# Altium schematic symbol library mcu_8bit_avr_mega8-48-88-168-328.SchLib: 61 symbols (part 2 of 2)
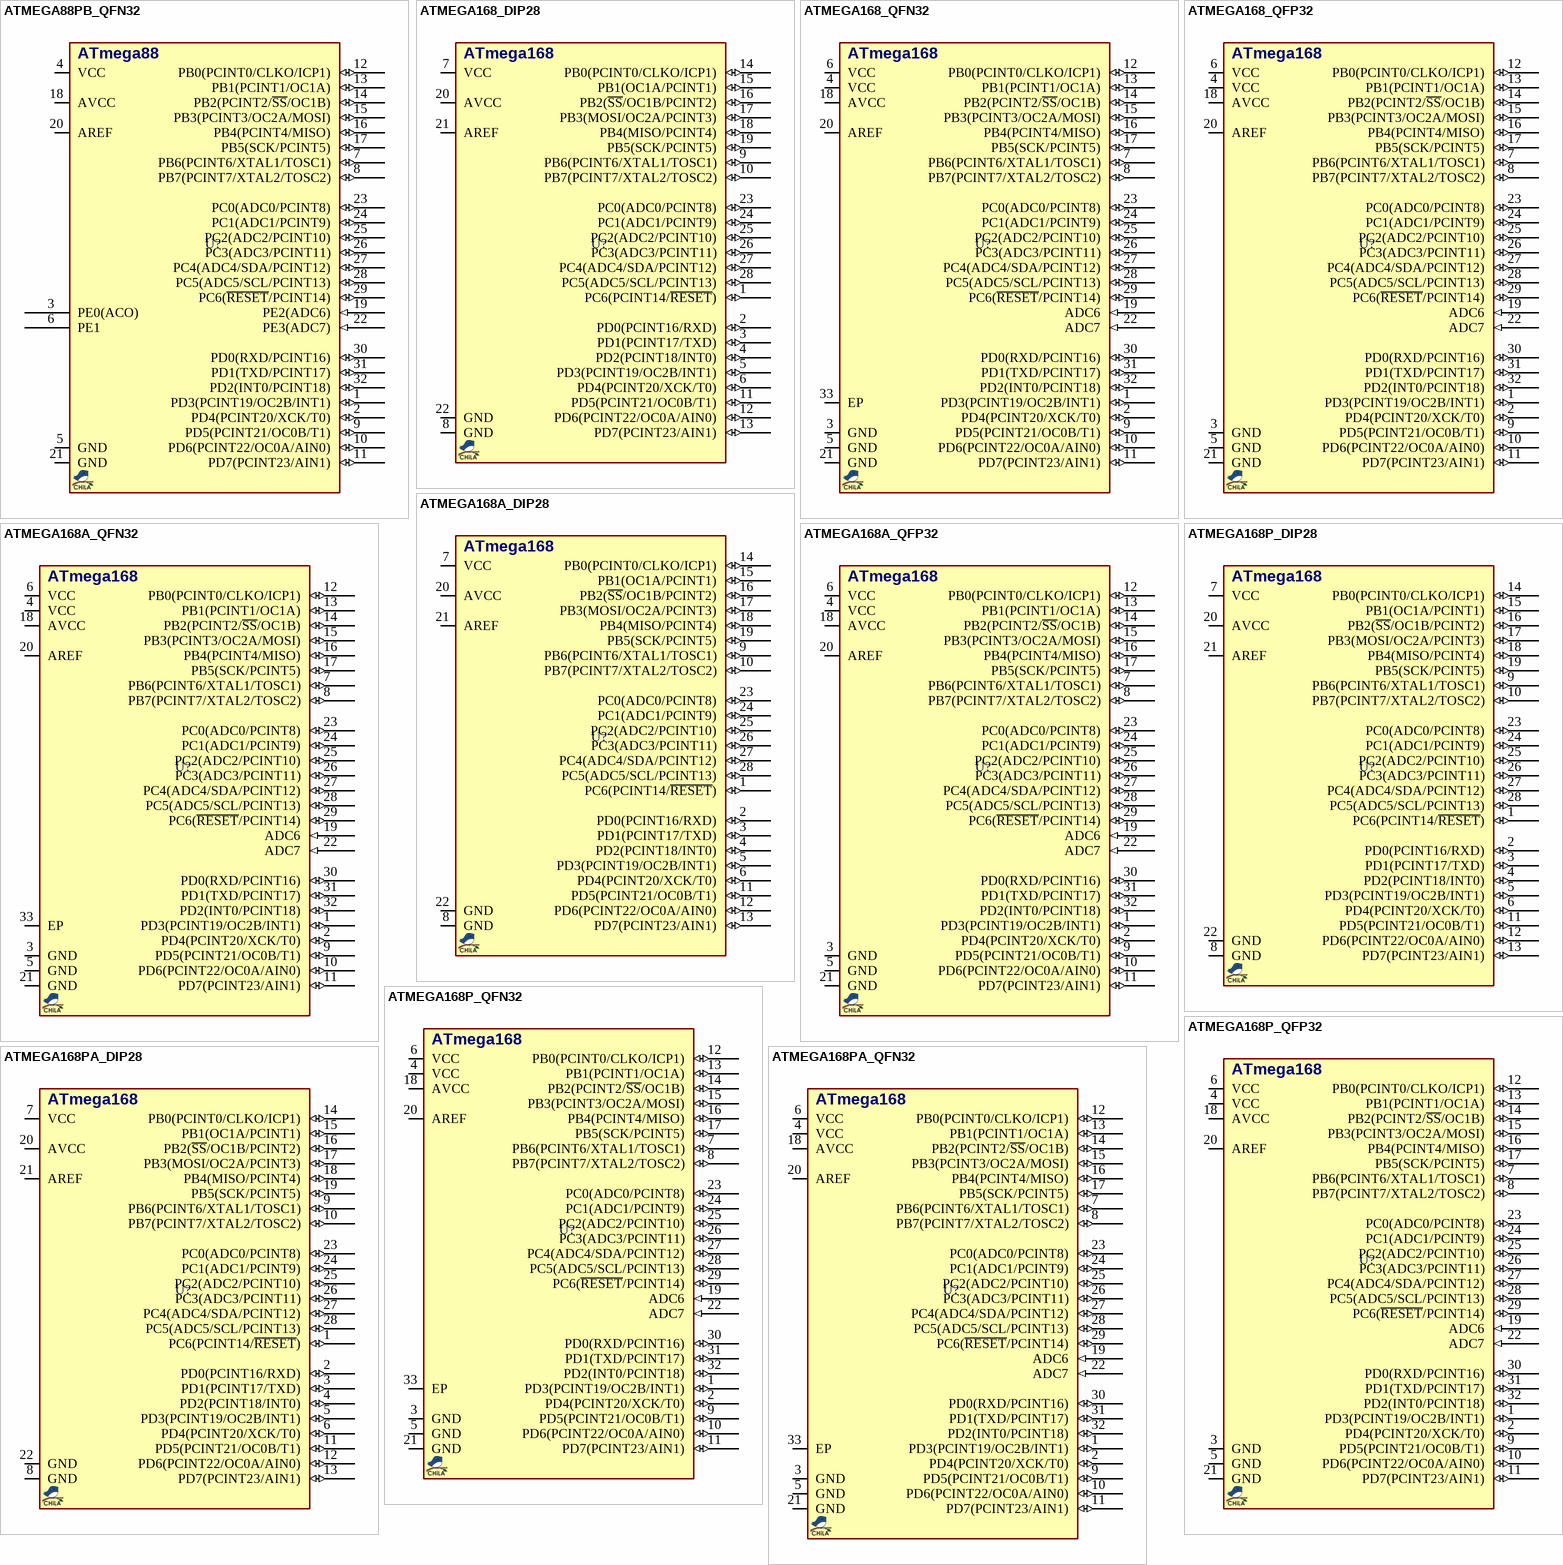
[diagram p6: symbols ATMEGA88PB_QFN32 to ATMEGA168PA_QFN32]

## ATMEGA168P_QFN32
designator U?, comment ATMEGA168  (value not drawn)
MCU, AVR, 8-Bit, 16KB, 1KB RAM, 20MHz; PART#ALT: ATmega8-48-88-168-328; MANF_P#: ATMEGA168P-20MU; DESC: 512B EEPROM; MANF: ATMEL/MICROCHIP; PARAM2: 2.7~5.5V; PARAM: 16KB, 1KB RAM, 20MHz, -40~85°C; PRICE: 2$; VALUE: ATMEGA168
footprint QFG80_32 (TQFP32, A32 (Cypress), GP32 (Zarlink), MS-026ABA(JEDEC), 7X7mm, 0.8mm)
pins: 1 PD3(PCINT19/OC2B/INT1) (io), 2 PD4(PCINT20/XCK/T0) (io), 3 GND (power), 4 VCC (power), 5 GND (power), 6 VCC (power), 7 PB6(PCINT6/XTAL1/TOSC1) (io), 8 PB7(PCINT7/XTAL2/TOSC2) (io), 9 PD5(PCINT21/OC0B/T1) (io), 10 PD6(PCINT22/OC0A/AIN0) (io), 11 PD7(PCINT23/AIN1) (io), 12 PB0(PCINT0/CLKO/ICP1) (io), 13 PB1(PCINT1/OC1A) (io), 14 PB2(PCINT2/~{SS}/OC1B) (io), 15 PB3(PCINT3/OC2A/MOSI) (io), 16 PB4(PCINT4/MISO) (io), 17 PB5(SCK/PCINT5) (io), 18 AVCC (power), 19 ADC6 (in), 20 AREF, 21 GND (power), 22 ADC7 (in), 23 PC0(ADC0/PCINT8) (io), 24 PC1(ADC1/PCINT9) (io), 25 PC2(ADC2/PCINT10) (io), 26 PC3(ADC3/PCINT11) (io), 27 PC4(ADC4/SDA/PCINT12) (io), 28 PC5(ADC5/SCL/PCINT13) (io), 29 PC6(~{RESET}/PCINT14) (io), 30 PD0(RXD/PCINT16) (io), 31 PD1(TXD/PCINT17) (io), 32 PD2(INT0/PCINT18) (io), 33 EP (power)
text: ATmega168

## ATMEGA168P_QFP32
designator U?, comment ATMEGA168  (value not drawn)
MCU, AVR, 8-Bit, 16KB, 1KB RAM, 20MHz; PART#ALT: ATmega8-48-88-168-328; MANF_P#: ATMEGA168P-20AU; DESC: 512B EEPROM; MANF: ATMEL/MICROCHIP; PARAM2: 2.7~5.5V; PARAM: 16KB, 1KB RAM, 20MHz, -40~85°C; PRICE: 2$; VALUE: ATMEGA168
footprint QFG80_32 (TQFP32, A32 (Cypress), GP32 (Zarlink), MS-026ABA(JEDEC), 7X7mm, 0.8mm)
pins: 1 PD3(PCINT19/OC2B/INT1) (io), 2 PD4(PCINT20/XCK/T0) (io), 3 GND (power), 4 VCC (power), 5 GND (power), 6 VCC (power), 7 PB6(PCINT6/XTAL1/TOSC1) (io), 8 PB7(PCINT7/XTAL2/TOSC2) (io), 9 PD5(PCINT21/OC0B/T1) (io), 10 PD6(PCINT22/OC0A/AIN0) (io), 11 PD7(PCINT23/AIN1) (io), 12 PB0(PCINT0/CLKO/ICP1) (io), 13 PB1(PCINT1/OC1A) (io), 14 PB2(PCINT2/~{SS}/OC1B) (io), 15 PB3(PCINT3/OC2A/MOSI) (io), 16 PB4(PCINT4/MISO) (io), 17 PB5(SCK/PCINT5) (io), 18 AVCC (power), 19 ADC6 (in), 20 AREF, 21 GND (power), 22 ADC7 (in), 23 PC0(ADC0/PCINT8) (io), 24 PC1(ADC1/PCINT9) (io), 25 PC2(ADC2/PCINT10) (io), 26 PC3(ADC3/PCINT11) (io), 27 PC4(ADC4/SDA/PCINT12) (io), 28 PC5(ADC5/SCL/PCINT13) (io), 29 PC6(~{RESET}/PCINT14) (io), 30 PD0(RXD/PCINT16) (io), 31 PD1(TXD/PCINT17) (io), 32 PD2(INT0/PCINT18) (io)
text: ATmega168

## ATMEGA168PA_DIP28
designator U?, comment ATMEGA168  (value not drawn)
MCU, AVR, 8-Bit, 16KB, 1KB RAM, 20MHz; PART#ALT: ATmega8-48-88-168-328; MANF_P#: ATMEGA168A-PU; DESC: 512B EEPROM; MANF: ATMEL/MICROCHIP; PARAM2: 1.8~5.5V; PARAM: 16KB, 1KB RAM, 20MHz, -40~85°C; PRICE: 1.8$; VALUE: ATMEGA168
footprint DIP_28 (DIP, pitch 2.54mm, 300mil Width)
pins: 1 PC6(PCINT14/~{RESET}) (io), 2 PD0(PCINT16/RXD) (io), 3 PD1(PCINT17/TXD) (io), 4 PD2(PCINT18/INT0) (io), 5 PD3(PCINT19/OC2B/INT1) (io), 6 PD4(PCINT20/XCK/T0) (io), 7 VCC (power), 8 GND (power), 9 PB6(PCINT6/XTAL1/TOSC1) (io), 10 PB7(PCINT7/XTAL2/TOSC2) (io), 11 PD5(PCINT21/OC0B/T1) (io), 12 PD6(PCINT22/OC0A/AIN0) (io), 13 PD7(PCINT23/AIN1) (io), 14 PB0(PCINT0/CLKO/ICP1) (io), 15 PB1(OC1A/PCINT1) (io), 16 PB2(~{SS}/OC1B/PCINT2) (io), 17 PB3(MOSI/OC2A/PCINT3) (io), 18 PB4(MISO/PCINT4) (io), 19 PB5(SCK/PCINT5) (io), 20 AVCC (power), 21 AREF, 22 GND (power), 23 PC0(ADC0/PCINT8) (io), 24 PC1(ADC1/PCINT9) (io), 25 PC2(ADC2/PCINT10) (io), 26 PC3(ADC3/PCINT11) (io), 27 PC4(ADC4/SDA/PCINT12) (io), 28 PC5(ADC5/SCL/PCINT13) (io)
text: ATmega168

## ATMEGA168PA_QFN32
designator U?, comment ATMEGA168  (value not drawn)
MCU, AVR, 8-Bit, 16KB, 1KB RAM, 20MHz; PART#ALT: ATmega8-48-88-168-328; MANF_P#: ATMEGA168PA-MU; DESC: 512B EEPROM; MANF: ATMEL/MICROCHIP; PARAM2: 1.8~5.5V; PARAM: 16KB, 1KB RAM, 20MHz, -40~85°C; PRICE: 1.1$; VALUE: ATMEGA168
footprint QFG80_32 (TQFP32, A32 (Cypress), GP32 (Zarlink), MS-026ABA(JEDEC), 7X7mm, 0.8mm)
pins: 1 PD3(PCINT19/OC2B/INT1) (io), 2 PD4(PCINT20/XCK/T0) (io), 3 GND (power), 4 VCC (power), 5 GND (power), 6 VCC (power), 7 PB6(PCINT6/XTAL1/TOSC1) (io), 8 PB7(PCINT7/XTAL2/TOSC2) (io), 9 PD5(PCINT21/OC0B/T1) (io), 10 PD6(PCINT22/OC0A/AIN0) (io), 11 PD7(PCINT23/AIN1) (io), 12 PB0(PCINT0/CLKO/ICP1) (io), 13 PB1(PCINT1/OC1A) (io), 14 PB2(PCINT2/~{SS}/OC1B) (io), 15 PB3(PCINT3/OC2A/MOSI) (io), 16 PB4(PCINT4/MISO) (io), 17 PB5(SCK/PCINT5) (io), 18 AVCC (power), 19 ADC6 (in), 20 AREF, 21 GND (power), 22 ADC7 (in), 23 PC0(ADC0/PCINT8) (io), 24 PC1(ADC1/PCINT9) (io), 25 PC2(ADC2/PCINT10) (io), 26 PC3(ADC3/PCINT11) (io), 27 PC4(ADC4/SDA/PCINT12) (io), 28 PC5(ADC5/SCL/PCINT13) (io), 29 PC6(~{RESET}/PCINT14) (io), 30 PD0(RXD/PCINT16) (io), 31 PD1(TXD/PCINT17) (io), 32 PD2(INT0/PCINT18) (io), 33 EP (power)
text: ATmega168

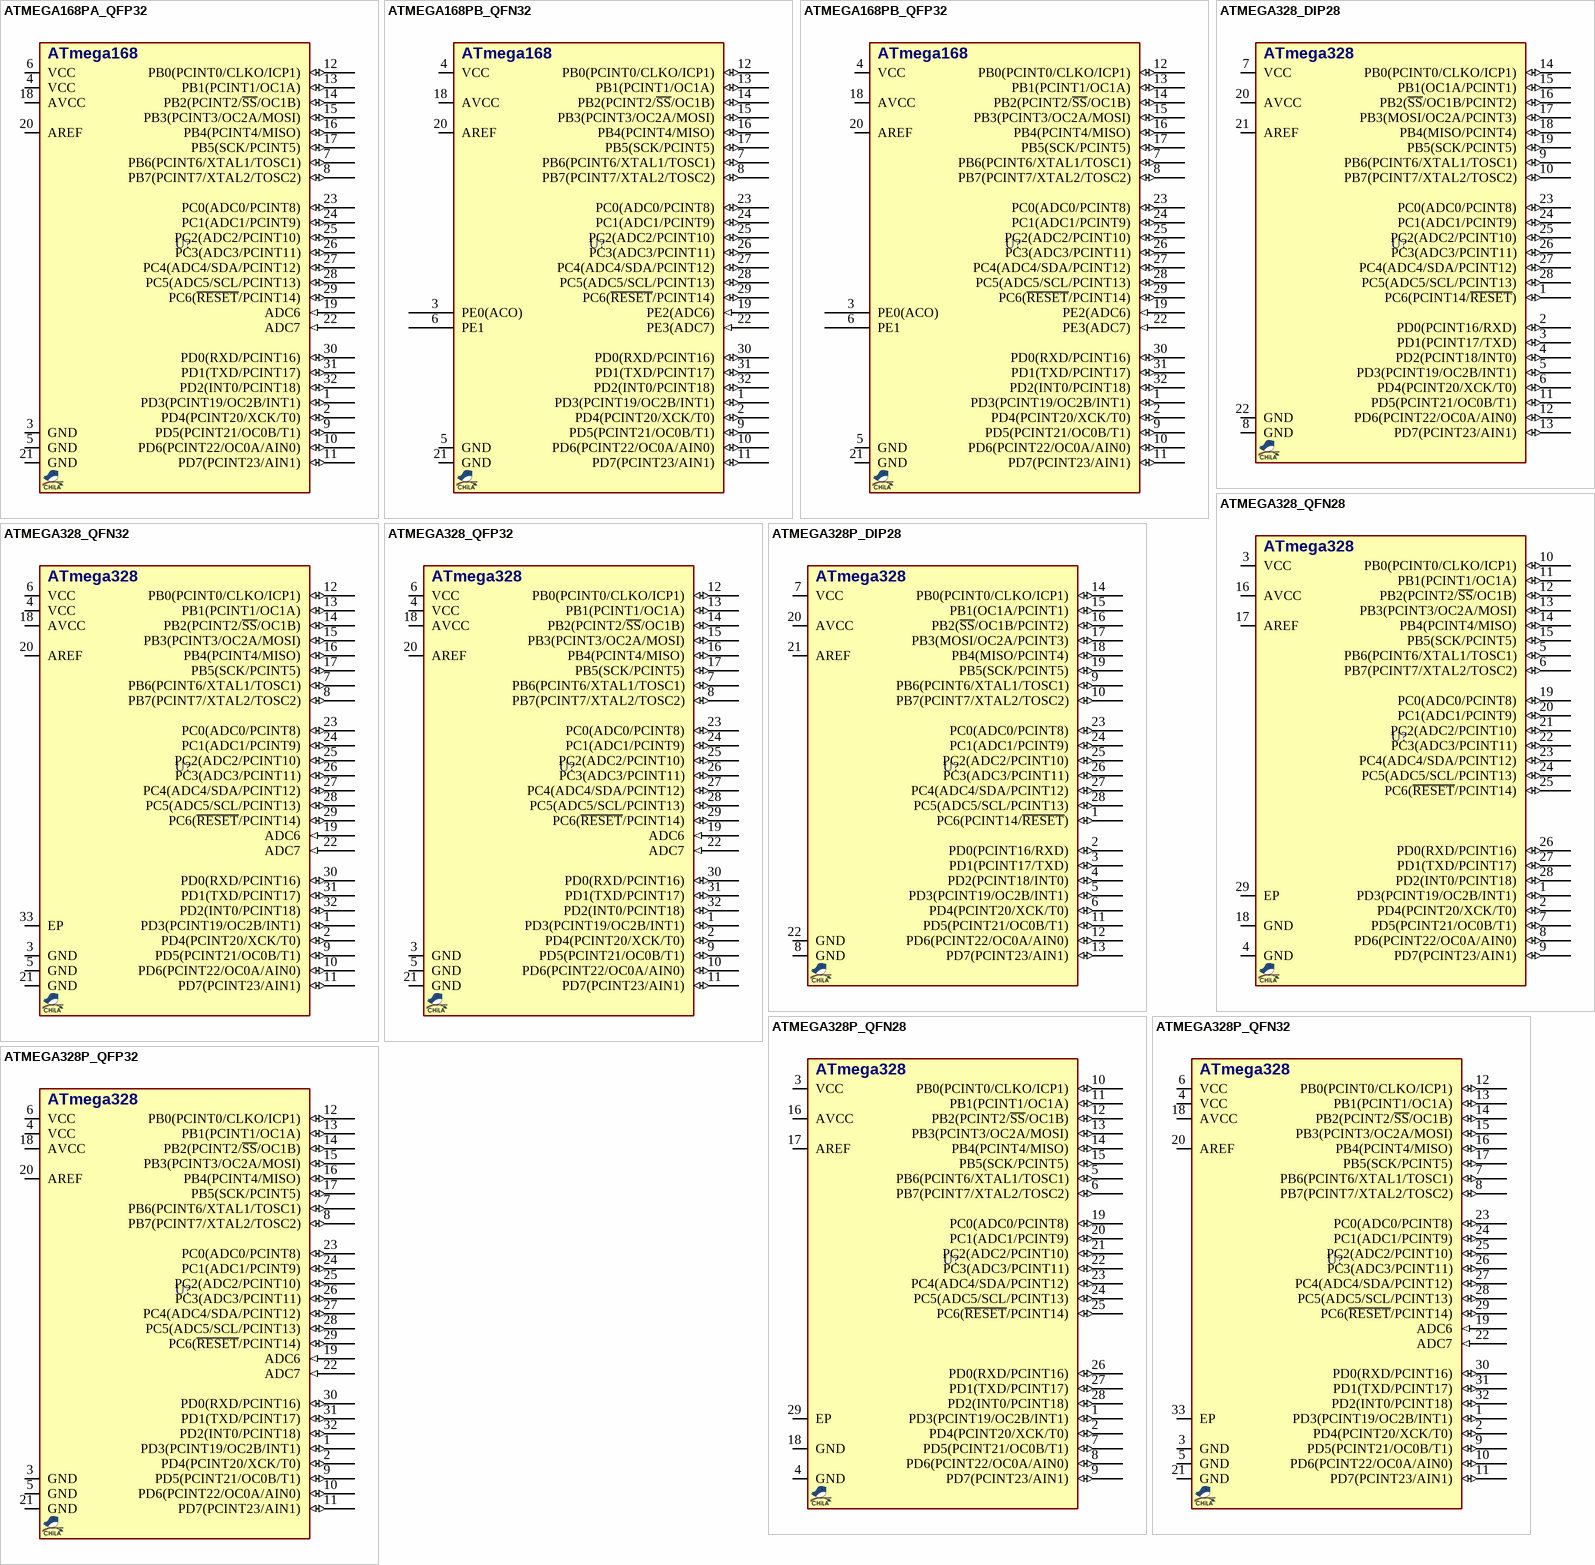
[diagram p4: symbols ATMEGA168PA_QFP32 to ATMEGA328P_QFP32]

## ATMEGA168PA_QFP32
designator U?, comment ATMEGA168  (value not drawn)
MCU, AVR, 8-Bit, 16KB, 1KB RAM, 20MHz; PART#ALT: ATmega8-48-88-168-328; MANF_P#: ATMEGA168PA-AU; DESC: 512B EEPROM; MANF: ATMEL/MICROCHIP; PARAM2: 1.8~5.5V; PARAM: 16KB, 1KB RAM, 20MHz, -40~85°C; PRICE: 2$; VALUE: ATMEGA168
footprint QFG80_32 (TQFP32, A32 (Cypress), GP32 (Zarlink), MS-026ABA(JEDEC), 7X7mm, 0.8mm)
pins: 1 PD3(PCINT19/OC2B/INT1) (io), 2 PD4(PCINT20/XCK/T0) (io), 3 GND (power), 4 VCC (power), 5 GND (power), 6 VCC (power), 7 PB6(PCINT6/XTAL1/TOSC1) (io), 8 PB7(PCINT7/XTAL2/TOSC2) (io), 9 PD5(PCINT21/OC0B/T1) (io), 10 PD6(PCINT22/OC0A/AIN0) (io), 11 PD7(PCINT23/AIN1) (io), 12 PB0(PCINT0/CLKO/ICP1) (io), 13 PB1(PCINT1/OC1A) (io), 14 PB2(PCINT2/~{SS}/OC1B) (io), 15 PB3(PCINT3/OC2A/MOSI) (io), 16 PB4(PCINT4/MISO) (io), 17 PB5(SCK/PCINT5) (io), 18 AVCC (power), 19 ADC6 (in), 20 AREF, 21 GND (power), 22 ADC7 (in), 23 PC0(ADC0/PCINT8) (io), 24 PC1(ADC1/PCINT9) (io), 25 PC2(ADC2/PCINT10) (io), 26 PC3(ADC3/PCINT11) (io), 27 PC4(ADC4/SDA/PCINT12) (io), 28 PC5(ADC5/SCL/PCINT13) (io), 29 PC6(~{RESET}/PCINT14) (io), 30 PD0(RXD/PCINT16) (io), 31 PD1(TXD/PCINT17) (io), 32 PD2(INT0/PCINT18) (io)
text: ATmega168

## ATMEGA168PB_QFN32
designator U?, comment ATMEGA168  (value not drawn)
MCU, AVR, 8-Bit, 16KB, 1KB RAM, 20MHz; PART#ALT: ATmega8-48-88-168-328; MANF_P#: ATMEGA168PB-MU; DESC: 512B EEPROM; MANF: ATMEL/MICROCHIP; PARAM2: 1.8~5.5V; PARAM: 16KB, 1KB RAM, 20MHz, -40~85°C; PRICE: 1.1$; VALUE: ATMEGA168
footprint QFG80_32 (TQFP32, A32 (Cypress), GP32 (Zarlink), MS-026ABA(JEDEC), 7X7mm, 0.8mm)
pins: 1 PD3(PCINT19/OC2B/INT1) (io), 2 PD4(PCINT20/XCK/T0) (io), 3 PE0(ACO) (power), 4 VCC (power), 5 GND (power), 6 PE1 (power), 7 PB6(PCINT6/XTAL1/TOSC1) (io), 8 PB7(PCINT7/XTAL2/TOSC2) (io), 9 PD5(PCINT21/OC0B/T1) (io), 10 PD6(PCINT22/OC0A/AIN0) (io), 11 PD7(PCINT23/AIN1) (io), 12 PB0(PCINT0/CLKO/ICP1) (io), 13 PB1(PCINT1/OC1A) (io), 14 PB2(PCINT2/~{SS}/OC1B) (io), 15 PB3(PCINT3/OC2A/MOSI) (io), 16 PB4(PCINT4/MISO) (io), 17 PB5(SCK/PCINT5) (io), 18 AVCC (power), 19 PE2(ADC6) (in), 20 AREF, 21 GND (power), 22 PE3(ADC7) (in), 23 PC0(ADC0/PCINT8) (io), 24 PC1(ADC1/PCINT9) (io), 25 PC2(ADC2/PCINT10) (io), 26 PC3(ADC3/PCINT11) (io), 27 PC4(ADC4/SDA/PCINT12) (io), 28 PC5(ADC5/SCL/PCINT13) (io), 29 PC6(~{RESET}/PCINT14) (io), 30 PD0(RXD/PCINT16) (io), 31 PD1(TXD/PCINT17) (io), 32 PD2(INT0/PCINT18) (io)
text: ATmega168

## ATMEGA168PB_QFP32
designator U?, comment ATMEGA168  (value not drawn)
MCU, AVR, 8-Bit, 16KB, 1KB RAM, 20MHz; PART#ALT: ATmega8-48-88-168-328; MANF_P#: ATMEGA168PB-AU; DESC: 512B EEPROM; MANF: ATMEL/MICROCHIP; PARAM2: 1.8~5.5V; PARAM: 16KB, 1KB RAM, 20MHz, -40~85°C; PRICE: 1.2$; VALUE: ATMEGA168
footprint QFG80_32 (TQFP32, A32 (Cypress), GP32 (Zarlink), MS-026ABA(JEDEC), 7X7mm, 0.8mm)
pins: 1 PD3(PCINT19/OC2B/INT1) (io), 2 PD4(PCINT20/XCK/T0) (io), 3 PE0(ACO) (power), 4 VCC (power), 5 GND (power), 6 PE1 (power), 7 PB6(PCINT6/XTAL1/TOSC1) (io), 8 PB7(PCINT7/XTAL2/TOSC2) (io), 9 PD5(PCINT21/OC0B/T1) (io), 10 PD6(PCINT22/OC0A/AIN0) (io), 11 PD7(PCINT23/AIN1) (io), 12 PB0(PCINT0/CLKO/ICP1) (io), 13 PB1(PCINT1/OC1A) (io), 14 PB2(PCINT2/~{SS}/OC1B) (io), 15 PB3(PCINT3/OC2A/MOSI) (io), 16 PB4(PCINT4/MISO) (io), 17 PB5(SCK/PCINT5) (io), 18 AVCC (power), 19 PE2(ADC6) (in), 20 AREF, 21 GND (power), 22 PE3(ADC7) (in), 23 PC0(ADC0/PCINT8) (io), 24 PC1(ADC1/PCINT9) (io), 25 PC2(ADC2/PCINT10) (io), 26 PC3(ADC3/PCINT11) (io), 27 PC4(ADC4/SDA/PCINT12) (io), 28 PC5(ADC5/SCL/PCINT13) (io), 29 PC6(~{RESET}/PCINT14) (io), 30 PD0(RXD/PCINT16) (io), 31 PD1(TXD/PCINT17) (io), 32 PD2(INT0/PCINT18) (io)
text: ATmega168

## ATMEGA328_DIP28
designator U?, comment ATMEGA328  (value not drawn)
MCU, AVR, 8-Bit, 16KB, 512B RAM, 20MHz; PART#ALT: ATmega8-48-88-168-328; MANF_P#: ATMEGA328-PU; DESC: 1KB EEPROM; MANF: ATMEL/MICROCHIP; PARAM2: 1.8~5.5V; PARAM: 32KB, 2KB RAM, 20MHz, -40~85°C; PRICE: 2.2$; VALUE: ATMEGA328
footprint DIP_28 (DIP, pitch 2.54mm, 300mil Width)
pins: 1 PC6(PCINT14/~{RESET}) (io), 2 PD0(PCINT16/RXD) (io), 3 PD1(PCINT17/TXD) (io), 4 PD2(PCINT18/INT0) (io), 5 PD3(PCINT19/OC2B/INT1) (io), 6 PD4(PCINT20/XCK/T0) (io), 7 VCC (power), 8 GND (power), 9 PB6(PCINT6/XTAL1/TOSC1) (io), 10 PB7(PCINT7/XTAL2/TOSC2) (io), 11 PD5(PCINT21/OC0B/T1) (io), 12 PD6(PCINT22/OC0A/AIN0) (io), 13 PD7(PCINT23/AIN1) (io), 14 PB0(PCINT0/CLKO/ICP1) (io), 15 PB1(OC1A/PCINT1) (io), 16 PB2(~{SS}/OC1B/PCINT2) (io), 17 PB3(MOSI/OC2A/PCINT3) (io), 18 PB4(MISO/PCINT4) (io), 19 PB5(SCK/PCINT5) (io), 20 AVCC (power), 21 AREF, 22 GND (power), 23 PC0(ADC0/PCINT8) (io), 24 PC1(ADC1/PCINT9) (io), 25 PC2(ADC2/PCINT10) (io), 26 PC3(ADC3/PCINT11) (io), 27 PC4(ADC4/SDA/PCINT12) (io), 28 PC5(ADC5/SCL/PCINT13) (io)
text: ATmega328

## ATMEGA328_QFN28
designator U?, comment ATMEGA328  (value not drawn)
MCU, AVR, 8-Bit, 8KB, 1KB RAM, 20MHz; PART#ALT: ATmega8-48-88-168-328; MANF_P#: ATMEGA328-MMH; DESC: 1KB EEPROM; MANF: ATMEL/MICROCHIP; PARAM2: 1.8~5.5V; PARAM: 32KB, 2KB RAM, 20MHz, -40~85°C; PRICE: 2$; VALUE: ATMEGA328
footprint QFN45_28T_4X4 (28M1, QFN-28, pitch:0.45mm 4x4x1mm)
pins: 1 PD3(PCINT19/OC2B/INT1) (io), 2 PD4(PCINT20/XCK/T0) (io), 3 VCC (power), 4 GND (power), 5 PB6(PCINT6/XTAL1/TOSC1) (io), 6 PB7(PCINT7/XTAL2/TOSC2) (io), 7 PD5(PCINT21/OC0B/T1) (io), 8 PD6(PCINT22/OC0A/AIN0) (io), 9 PD7(PCINT23/AIN1) (io), 10 PB0(PCINT0/CLKO/ICP1) (io), 11 PB1(PCINT1/OC1A) (io), 12 PB2(PCINT2/~{SS}/OC1B) (io), 13 PB3(PCINT3/OC2A/MOSI) (io), 14 PB4(PCINT4/MISO) (io), 15 PB5(SCK/PCINT5) (io), 16 AVCC (power), 17 AREF (power), 18 GND (power), 19 PC0(ADC0/PCINT8) (io), 20 PC1(ADC1/PCINT9) (io), 21 PC2(ADC2/PCINT10) (io), 22 PC3(ADC3/PCINT11) (io), 23 PC4(ADC4/SDA/PCINT12) (io), 24 PC5(ADC5/SCL/PCINT13) (io), 25 PC6(~{RESET}/PCINT14) (io), 26 PD0(RXD/PCINT16) (io), 27 PD1(TXD/PCINT17) (io), 28 PD2(INT0/PCINT18) (io), 29 EP (power)
text: ATmega328

## ATMEGA328_QFN32
designator U?, comment ATMEGA328  (value not drawn)
MCU, AVR, 8-Bit, 16KB, 1KB RAM, 20MHz; PART#ALT: ATmega8-48-88-168-328; MANF_P#: ATMEGA328-MU; DESC: 1KB EEPROM; MANF: ATMEL/MICROCHIP; PARAM2: 1.8~5.5V; PARAM: 32KB, 2KB RAM, 20MHz, -40~85°C; PRICE: 2.2$; VALUE: ATMEGA328
footprint QFG80_32 (TQFP32, A32 (Cypress), GP32 (Zarlink), MS-026ABA(JEDEC), 7X7mm, 0.8mm)
pins: 1 PD3(PCINT19/OC2B/INT1) (io), 2 PD4(PCINT20/XCK/T0) (io), 3 GND (power), 4 VCC (power), 5 GND (power), 6 VCC (power), 7 PB6(PCINT6/XTAL1/TOSC1) (io), 8 PB7(PCINT7/XTAL2/TOSC2) (io), 9 PD5(PCINT21/OC0B/T1) (io), 10 PD6(PCINT22/OC0A/AIN0) (io), 11 PD7(PCINT23/AIN1) (io), 12 PB0(PCINT0/CLKO/ICP1) (io), 13 PB1(PCINT1/OC1A) (io), 14 PB2(PCINT2/~{SS}/OC1B) (io), 15 PB3(PCINT3/OC2A/MOSI) (io), 16 PB4(PCINT4/MISO) (io), 17 PB5(SCK/PCINT5) (io), 18 AVCC (power), 19 ADC6 (in), 20 AREF, 21 GND (power), 22 ADC7 (in), 23 PC0(ADC0/PCINT8) (io), 24 PC1(ADC1/PCINT9) (io), 25 PC2(ADC2/PCINT10) (io), 26 PC3(ADC3/PCINT11) (io), 27 PC4(ADC4/SDA/PCINT12) (io), 28 PC5(ADC5/SCL/PCINT13) (io), 29 PC6(~{RESET}/PCINT14) (io), 30 PD0(RXD/PCINT16) (io), 31 PD1(TXD/PCINT17) (io), 32 PD2(INT0/PCINT18) (io), 33 EP (power)
text: ATmega328

## ATMEGA328_QFP32
designator U?, comment ATMEGA328  (value not drawn)
MCU, AVR, 8-Bit, 16KB, 1KB RAM, 20MHz; PART#ALT: ATmega8-48-88-168-328; MANF_P#: ATMEGA328-AU; DESC: 1KB EEPROM; MANF: ATMEL/MICROCHIP; PARAM2: 1.8~5.5V; PARAM: 32KB, 2KB RAM, 20MHz, -40~85°C; PRICE: 2.2$; VALUE: ATMEGA328
footprint QFG80_32 (TQFP32, A32 (Cypress), GP32 (Zarlink), MS-026ABA(JEDEC), 7X7mm, 0.8mm)
pins: 1 PD3(PCINT19/OC2B/INT1) (io), 2 PD4(PCINT20/XCK/T0) (io), 3 GND (power), 4 VCC (power), 5 GND (power), 6 VCC (power), 7 PB6(PCINT6/XTAL1/TOSC1) (io), 8 PB7(PCINT7/XTAL2/TOSC2) (io), 9 PD5(PCINT21/OC0B/T1) (io), 10 PD6(PCINT22/OC0A/AIN0) (io), 11 PD7(PCINT23/AIN1) (io), 12 PB0(PCINT0/CLKO/ICP1) (io), 13 PB1(PCINT1/OC1A) (io), 14 PB2(PCINT2/~{SS}/OC1B) (io), 15 PB3(PCINT3/OC2A/MOSI) (io), 16 PB4(PCINT4/MISO) (io), 17 PB5(SCK/PCINT5) (io), 18 AVCC (power), 19 ADC6 (in), 20 AREF, 21 GND (power), 22 ADC7 (in), 23 PC0(ADC0/PCINT8) (io), 24 PC1(ADC1/PCINT9) (io), 25 PC2(ADC2/PCINT10) (io), 26 PC3(ADC3/PCINT11) (io), 27 PC4(ADC4/SDA/PCINT12) (io), 28 PC5(ADC5/SCL/PCINT13) (io), 29 PC6(~{RESET}/PCINT14) (io), 30 PD0(RXD/PCINT16) (io), 31 PD1(TXD/PCINT17) (io), 32 PD2(INT0/PCINT18) (io)
text: ATmega328

## ATMEGA328P_DIP28
designator U?, comment ATMEGA328  (value not drawn)
MCU, AVR, 8-Bit, 32KB, 2KB RAM, 20MHz; PART#ALT: ATmega8-48-88-168-328; MANF_P#: ATMEGA328P-PU; DESC: 1KB EEPROM; MANF: ATMEL/MICROCHIP; PARAM2: 1.8~5.5V; PARAM: 32KB, 2KB RAM, 20MHz, -40~85°C; PRICE: 2.2$; VALUE: ATMEGA328
footprint DIP_28 (DIP, pitch 2.54mm, 300mil Width)
pins: 1 PC6(PCINT14/~{RESET}) (io), 2 PD0(PCINT16/RXD) (io), 3 PD1(PCINT17/TXD) (io), 4 PD2(PCINT18/INT0) (io), 5 PD3(PCINT19/OC2B/INT1) (io), 6 PD4(PCINT20/XCK/T0) (io), 7 VCC (power), 8 GND (power), 9 PB6(PCINT6/XTAL1/TOSC1) (io), 10 PB7(PCINT7/XTAL2/TOSC2) (io), 11 PD5(PCINT21/OC0B/T1) (io), 12 PD6(PCINT22/OC0A/AIN0) (io), 13 PD7(PCINT23/AIN1) (io), 14 PB0(PCINT0/CLKO/ICP1) (io), 15 PB1(OC1A/PCINT1) (io), 16 PB2(~{SS}/OC1B/PCINT2) (io), 17 PB3(MOSI/OC2A/PCINT3) (io), 18 PB4(MISO/PCINT4) (io), 19 PB5(SCK/PCINT5) (io), 20 AVCC (power), 21 AREF, 22 GND (power), 23 PC0(ADC0/PCINT8) (io), 24 PC1(ADC1/PCINT9) (io), 25 PC2(ADC2/PCINT10) (io), 26 PC3(ADC3/PCINT11) (io), 27 PC4(ADC4/SDA/PCINT12) (io), 28 PC5(ADC5/SCL/PCINT13) (io)
text: ATmega328

## ATMEGA328P_QFN28
designator U?, comment ATMEGA328  (value not drawn)
MCU, AVR, 8-Bit, 8KB, 1KB RAM, 20MHz; PART#ALT: ATmega8-48-88-168-328; MANF_P#: ATMEGA328P-MMH; DESC: 1KB EEPROM; MANF: ATMEL/MICROCHIP; PARAM2: 1.8~5.5V; PARAM: 32KB, 2KB RAM, 20MHz, -40~85°C; PRICE: 2$; VALUE: ATMEGA328
footprint QFN45_28T_4X4 (28M1, QFN-28, pitch:0.45mm 4x4x1mm)
pins: 1 PD3(PCINT19/OC2B/INT1) (io), 2 PD4(PCINT20/XCK/T0) (io), 3 VCC (power), 4 GND (power), 5 PB6(PCINT6/XTAL1/TOSC1) (io), 6 PB7(PCINT7/XTAL2/TOSC2) (io), 7 PD5(PCINT21/OC0B/T1) (io), 8 PD6(PCINT22/OC0A/AIN0) (io), 9 PD7(PCINT23/AIN1) (io), 10 PB0(PCINT0/CLKO/ICP1) (io), 11 PB1(PCINT1/OC1A) (io), 12 PB2(PCINT2/~{SS}/OC1B) (io), 13 PB3(PCINT3/OC2A/MOSI) (io), 14 PB4(PCINT4/MISO) (io), 15 PB5(SCK/PCINT5) (io), 16 AVCC (power), 17 AREF (power), 18 GND (power), 19 PC0(ADC0/PCINT8) (io), 20 PC1(ADC1/PCINT9) (io), 21 PC2(ADC2/PCINT10) (io), 22 PC3(ADC3/PCINT11) (io), 23 PC4(ADC4/SDA/PCINT12) (io), 24 PC5(ADC5/SCL/PCINT13) (io), 25 PC6(~{RESET}/PCINT14) (io), 26 PD0(RXD/PCINT16) (io), 27 PD1(TXD/PCINT17) (io), 28 PD2(INT0/PCINT18) (io), 29 EP (power)
text: ATmega328

## ATMEGA328P_QFN32
designator U?, comment ATMEGA328  (value not drawn)
MCU, AVR, 8-Bit, 16KB, 1KB RAM, 20MHz; PART#ALT: ATmega8-48-88-168-328; MANF_P#: ATMEGA328P-MU; DESC: 1KB EEPROM; MANF: ATMEL/MICROCHIP; PARAM2: 1.8~5.5V; PARAM: 32KB, 2KB RAM, 20MHz, -40~85°C; PRICE: 2$; VALUE: ATMEGA328
footprint QFG80_32 (TQFP32, A32 (Cypress), GP32 (Zarlink), MS-026ABA(JEDEC), 7X7mm, 0.8mm)
pins: 1 PD3(PCINT19/OC2B/INT1) (io), 2 PD4(PCINT20/XCK/T0) (io), 3 GND (power), 4 VCC (power), 5 GND (power), 6 VCC (power), 7 PB6(PCINT6/XTAL1/TOSC1) (io), 8 PB7(PCINT7/XTAL2/TOSC2) (io), 9 PD5(PCINT21/OC0B/T1) (io), 10 PD6(PCINT22/OC0A/AIN0) (io), 11 PD7(PCINT23/AIN1) (io), 12 PB0(PCINT0/CLKO/ICP1) (io), 13 PB1(PCINT1/OC1A) (io), 14 PB2(PCINT2/~{SS}/OC1B) (io), 15 PB3(PCINT3/OC2A/MOSI) (io), 16 PB4(PCINT4/MISO) (io), 17 PB5(SCK/PCINT5) (io), 18 AVCC (power), 19 ADC6 (in), 20 AREF, 21 GND (power), 22 ADC7 (in), 23 PC0(ADC0/PCINT8) (io), 24 PC1(ADC1/PCINT9) (io), 25 PC2(ADC2/PCINT10) (io), 26 PC3(ADC3/PCINT11) (io), 27 PC4(ADC4/SDA/PCINT12) (io), 28 PC5(ADC5/SCL/PCINT13) (io), 29 PC6(~{RESET}/PCINT14) (io), 30 PD0(RXD/PCINT16) (io), 31 PD1(TXD/PCINT17) (io), 32 PD2(INT0/PCINT18) (io), 33 EP (power)
text: ATmega328

## ATMEGA328P_QFP32
designator U?, comment ATMEGA328  (value not drawn)
MCU, AVR, 8-Bit, 16KB, 1KB RAM, 20MHz; PART#ALT: ATmega8-48-88-168-328; MANF_P#: ATMEGA328P-AU; DESC: 1KB EEPROM; MANF: ATMEL/MICROCHIP; PARAM2: 1.8~5.5V; PARAM: 32KB, 2KB RAM, 20MHz, -40~85°C; PRICE: 2$; VALUE: ATMEGA328
footprint QFG80_32 (TQFP32, A32 (Cypress), GP32 (Zarlink), MS-026ABA(JEDEC), 7X7mm, 0.8mm)
pins: 1 PD3(PCINT19/OC2B/INT1) (io), 2 PD4(PCINT20/XCK/T0) (io), 3 GND (power), 4 VCC (power), 5 GND (power), 6 VCC (power), 7 PB6(PCINT6/XTAL1/TOSC1) (io), 8 PB7(PCINT7/XTAL2/TOSC2) (io), 9 PD5(PCINT21/OC0B/T1) (io), 10 PD6(PCINT22/OC0A/AIN0) (io), 11 PD7(PCINT23/AIN1) (io), 12 PB0(PCINT0/CLKO/ICP1) (io), 13 PB1(PCINT1/OC1A) (io), 14 PB2(PCINT2/~{SS}/OC1B) (io), 15 PB3(PCINT3/OC2A/MOSI) (io), 16 PB4(PCINT4/MISO) (io), 17 PB5(SCK/PCINT5) (io), 18 AVCC (power), 19 ADC6 (in), 20 AREF, 21 GND (power), 22 ADC7 (in), 23 PC0(ADC0/PCINT8) (io), 24 PC1(ADC1/PCINT9) (io), 25 PC2(ADC2/PCINT10) (io), 26 PC3(ADC3/PCINT11) (io), 27 PC4(ADC4/SDA/PCINT12) (io), 28 PC5(ADC5/SCL/PCINT13) (io), 29 PC6(~{RESET}/PCINT14) (io), 30 PD0(RXD/PCINT16) (io), 31 PD1(TXD/PCINT17) (io), 32 PD2(INT0/PCINT18) (io)
text: ATmega328

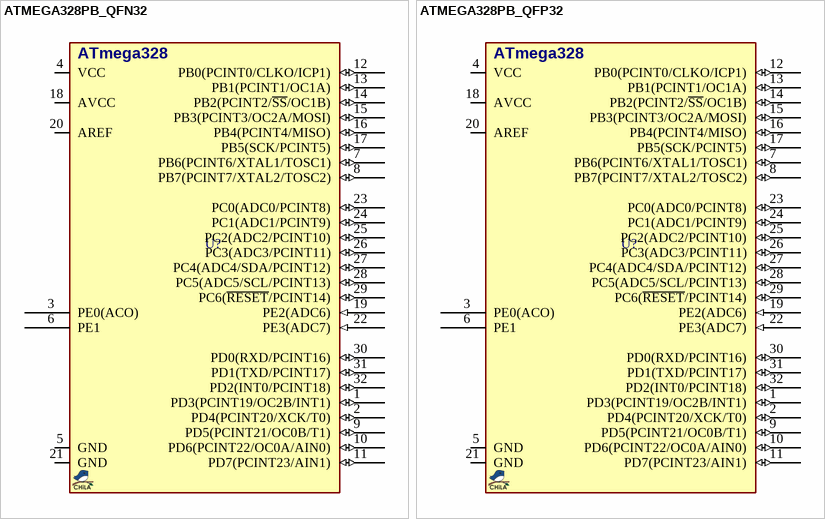
[diagram p5: symbols ATMEGA328PB_QFN32 to ATMEGA328PB_QFP32]

## ATMEGA328PB_QFN32
designator U?, comment ATMEGA328  (value not drawn)
MCU, AVR, 8-Bit, 16KB, 1KB RAM, 20MHz; PART#ALT: ATmega8-48-88-168-328; MANF_P#: ATMEGA328PB-MN; DESC: 1KB EEPROM; MANF: ATMEL/MICROCHIP; PARAM2: 1.8~5.5V; PARAM: 32KB, 2KB RAM, 20MHz, -40~85°C; PRICE: 1.4$; VALUE: ATMEGA328
footprint QFG80_32 (TQFP32, A32 (Cypress), GP32 (Zarlink), MS-026ABA(JEDEC), 7X7mm, 0.8mm)
pins: 1 PD3(PCINT19/OC2B/INT1) (io), 2 PD4(PCINT20/XCK/T0) (io), 3 PE0(ACO) (power), 4 VCC (power), 5 GND (power), 6 PE1 (power), 7 PB6(PCINT6/XTAL1/TOSC1) (io), 8 PB7(PCINT7/XTAL2/TOSC2) (io), 9 PD5(PCINT21/OC0B/T1) (io), 10 PD6(PCINT22/OC0A/AIN0) (io), 11 PD7(PCINT23/AIN1) (io), 12 PB0(PCINT0/CLKO/ICP1) (io), 13 PB1(PCINT1/OC1A) (io), 14 PB2(PCINT2/~{SS}/OC1B) (io), 15 PB3(PCINT3/OC2A/MOSI) (io), 16 PB4(PCINT4/MISO) (io), 17 PB5(SCK/PCINT5) (io), 18 AVCC (power), 19 PE2(ADC6) (in), 20 AREF, 21 GND (power), 22 PE3(ADC7) (in), 23 PC0(ADC0/PCINT8) (io), 24 PC1(ADC1/PCINT9) (io), 25 PC2(ADC2/PCINT10) (io), 26 PC3(ADC3/PCINT11) (io), 27 PC4(ADC4/SDA/PCINT12) (io), 28 PC5(ADC5/SCL/PCINT13) (io), 29 PC6(~{RESET}/PCINT14) (io), 30 PD0(RXD/PCINT16) (io), 31 PD1(TXD/PCINT17) (io), 32 PD2(INT0/PCINT18) (io)
text: ATmega328

## ATMEGA328PB_QFP32
designator U?, comment ATMEGA328  (value not drawn)
MCU, AVR, 8-Bit, 16KB, 1KB RAM, 20MHz; PART#ALT: ATmega8-48-88-168-328; MANF_P#: ATMEGA328PB-AU; DESC: 1KB EEPROM; MANF: ATMEL/MICROCHIP; PARAM2: 1.8~5.5V; PARAM: 32KB, 2KB RAM, 20MHz, -40~85°C; PRICE: 1.2$; VALUE: ATMEGA328
footprint QFG80_32 (TQFP32, A32 (Cypress), GP32 (Zarlink), MS-026ABA(JEDEC), 7X7mm, 0.8mm)
pins: 1 PD3(PCINT19/OC2B/INT1) (io), 2 PD4(PCINT20/XCK/T0) (io), 3 PE0(ACO) (power), 4 VCC (power), 5 GND (power), 6 PE1 (power), 7 PB6(PCINT6/XTAL1/TOSC1) (io), 8 PB7(PCINT7/XTAL2/TOSC2) (io), 9 PD5(PCINT21/OC0B/T1) (io), 10 PD6(PCINT22/OC0A/AIN0) (io), 11 PD7(PCINT23/AIN1) (io), 12 PB0(PCINT0/CLKO/ICP1) (io), 13 PB1(PCINT1/OC1A) (io), 14 PB2(PCINT2/~{SS}/OC1B) (io), 15 PB3(PCINT3/OC2A/MOSI) (io), 16 PB4(PCINT4/MISO) (io), 17 PB5(SCK/PCINT5) (io), 18 AVCC (power), 19 PE2(ADC6) (in), 20 AREF, 21 GND (power), 22 PE3(ADC7) (in), 23 PC0(ADC0/PCINT8) (io), 24 PC1(ADC1/PCINT9) (io), 25 PC2(ADC2/PCINT10) (io), 26 PC3(ADC3/PCINT11) (io), 27 PC4(ADC4/SDA/PCINT12) (io), 28 PC5(ADC5/SCL/PCINT13) (io), 29 PC6(~{RESET}/PCINT14) (io), 30 PD0(RXD/PCINT16) (io), 31 PD1(TXD/PCINT17) (io), 32 PD2(INT0/PCINT18) (io)
text: ATmega328